# Altium integrated library ICs_Reference.IntLib: 1 symbol
Pins are listed as number, name and electrical type; pins without a type are passive.

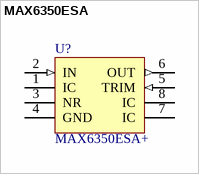
[diagram p0: symbol MAX6350ESA]

## MAX6350ESA
designator U?  Manufacturer Part Number: MAX6350ESA+  (hidden comment: MAX6350ESA)
1ppm/°C, Low-Noise, +5V Voltage Reference; Manufacturer: Maxim Integrated; Description: IC VREF SERIES BURIED ZNR 8-SOIC; Reference Type: Series, Buried Zener; Voltage - Output: 5V; Tolerance: ±0.02%; Temperature Coefficient: 1.5ppm/°C; Voltage - Input: 8 V ~ 36 V; Number of Channels: 1; Current - Quiescent: 3mA; Current - Output: 15mA; Supplier 1: Digi-Key; RoHS: RoHS Compliant; Category: Integrated Circuits (ICs); Stock 1: 343; Pricing 1: 1=14.19, 10=13.48, 25=12.26, 50=11.647, 100=8.76, 250=8.32196, 500=8.313 (USD); Packaging: Tube; Current - Cathode: -; Operating Temperature: -40°C ~ 85°C; Mounting Type: Surface Mount; Package / Case: 8-SOIC (0.154", 3.90mm Width); Supplier Device Package: 8-SOIC N; ComponentLink1URL: http://datasheets.maximintegrated.com/en/ds/MAX6325-MAX6350.pdf; ComponentLink1Description: http://datasheets.maximintegrated.com/en/ds/MAX6325-MAX6350.pdf; Supplier Part Number 1: MAX6350ESA+-ND
footprint NSO8_M (SOIC, 8-Leads, Body 4.9x3.9mm, Pitch 1.27mm, IPC Low Density)
footprint NSO8_L (SOIC, 8-Leads, Body 4.9x3.9mm, Pitch 1.27mm, IPC High Density)
footprint NSO8_M (SOIC, 8-Leads, Body 4.9x3.9mm, Pitch 1.27mm, IPC Low Density)
pins: 1 IC, 2 IN (in), 3 NR, 4 GND (power), 5 TRIM (in), 6 OUT (out), 7 IC, 8 IC